# EAGLE library part MC6809 (library micro-motorola)
MICROCONTROLLER/MEMORY DEVICE
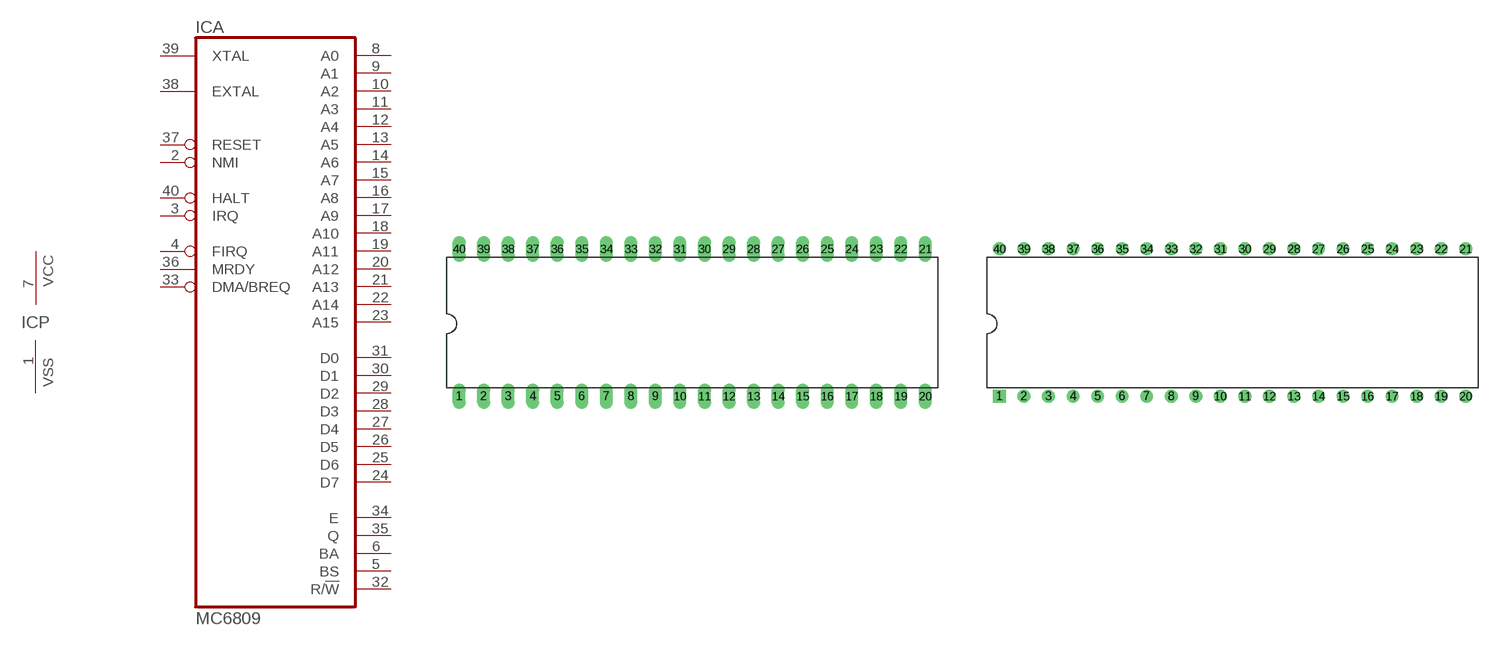
[diagram p5: symbol with the pads of DIL40; footprints DIL40, DIL40-ROUNDPAD]

Designator prefix IC; gates A=MC6809 P=PWRVSS

## MC6809 (MF: NTE ELECTRONICS; MPN: NTE6809; OC_FARNELL: 4530354; OC_NEWARK: 31C2459)  [DIL40]
1  P:VSS  pwr
2  A:NMI  in
3  A:IRQ  in
4  A:FIRQ  in
5  A:BS  out
6  A:BA  out
7  P:VCC  pwr
8  A:A0  hiz
9  A:A1  hiz
10  A:A2  hiz
11  A:A3  hiz
12  A:A4  hiz
13  A:A5  hiz
14  A:A6  hiz
15  A:A7  hiz
16  A:A8  hiz
17  A:A9  hiz
18  A:A10  hiz
19  A:A11  hiz
20  A:A12  hiz
21  A:A13  hiz
22  A:A14  hiz
23  A:A15  hiz
24  A:D7
25  A:D6
26  A:D5
27  A:D4
28  A:D3
29  A:D2
30  A:D1
31  A:D0
32  A:R/!W  out
33  A:DMA/BREQ  in
34  A:E  out
35  A:Q  out
36  A:MRDY  in
37  A:RESET  in
38  A:EXTAL  in
39  A:XTAL  in
40  A:HALT  in

## MC6809R  [DIL40-ROUNDPAD]
Pads as for DIL40

## Footprint DIL40 (pad centres in mm)
Dual In Line Package
drill 0.813 long: 1 -24.13,-7.62; 2 -21.59,-7.62; 3 -19.05,-7.62; 4 -16.51,-7.62; 5 -13.97,-7.62; 6 -11.43,-7.62; 7 -8.89,-7.62; 8 -6.35,-7.62; 9 -3.81,-7.62; 10 -1.27,-7.62; 11 1.27,-7.62; 12 3.81,-7.62; 13 6.35,-7.62; 14 8.89,-7.62; 15 11.43,-7.62; 16 13.97,-7.62; 17 16.51,-7.62; 18 19.05,-7.62; 19 21.59,-7.62; 20 24.13,-7.62; 21 24.13,7.62; 22 21.59,7.62; 23 19.05,7.62; 24 16.51,7.62; 25 13.97,7.62; 26 11.43,7.62; 27 8.89,7.62; 28 6.35,7.62; 29 3.81,7.62; 30 1.27,7.62; 31 -1.27,7.62; 32 -3.81,7.62; 33 -6.35,7.62; 34 -8.89,7.62; 35 -11.43,7.62; 36 -13.97,7.62; 37 -16.51,7.62; 38 -19.05,7.62; 39 -21.59,7.62; 40 -24.13,7.62

## Footprint DIL40-ROUNDPAD (pad centres in mm)
Dual In Line Package
drill 0.813 square: 1 -24.13,-7.62
drill 0.813: 2 -21.59,-7.62; 3 -19.05,-7.62; 4 -16.51,-7.62; 5 -13.97,-7.62; 6 -11.43,-7.62; 7 -8.89,-7.62; 8 -6.35,-7.62; 9 -3.81,-7.62; 10 -1.27,-7.62; 11 1.27,-7.62; 12 3.81,-7.62; 13 6.35,-7.62; 14 8.89,-7.62; 15 11.43,-7.62; 16 13.97,-7.62; 17 16.51,-7.62; 18 19.05,-7.62; 19 21.59,-7.62; 20 24.13,-7.62; 21 24.13,7.62; 22 21.59,7.62; 23 19.05,7.62; 24 16.51,7.62; 25 13.97,7.62; 26 11.43,7.62; 27 8.89,7.62; 28 6.35,7.62; 29 3.81,7.62; 30 1.27,7.62; 31 -1.27,7.62; 32 -3.81,7.62; 33 -6.35,7.62; 34 -8.89,7.62; 35 -11.43,7.62; 36 -13.97,7.62; 37 -16.51,7.62; 38 -19.05,7.62; 39 -21.59,7.62; 40 -24.13,7.62